# EAGLE library part PIN2X3_FEMALE (library __MyCommonLib1)
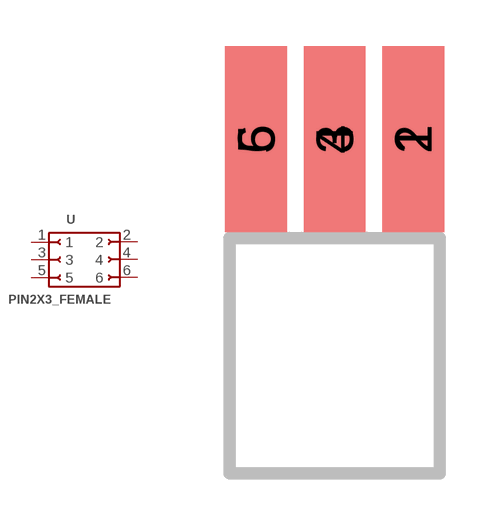
[diagram p5: symbol with the pads of PIN2X3_2.54MM_FEMALE_SIDE_BOARD; footprint PIN2X3_2.54MM_FEMALE_SIDE_BOARD]

Designator prefix -

## PIN2X3_FEMALE2.54MM_FEMALE_SIDE_BOARD  [PIN2X3_2.54MM_FEMALE_SIDE_BOARD]
1  1
2  2
3  3
4  4
5  5
6  6

## Footprint PIN2X3_2.54MM_FEMALE_SIDE_BOARD (pad centres in mm)
smd 2 x 6 bottom: 1 2.54,3; 3 0,3; 5 -2.54,3
smd 2 x 6: 2 2.54,3; 4 0,3; 6 -2.54,3